# Altium integrated library 74HC4052D.IntLib: 1 symbol
Pins are listed as number, name and electrical type; pins without a type are passive.

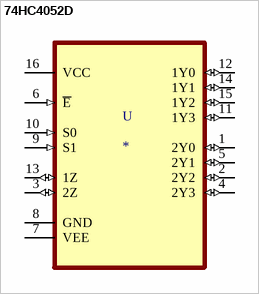
[diagram p0: symbol 74HC4052D]

## 74HC4052D
designator U
2 Circuit IC Switch 4:1 130Ohm 16-SOIC; MP: 74HC4052D; MF: Toshiba; SnapEDA_Link: https://www.snapeda.com/parts/74HC4052D/Toshiba%20Semiconductor%20and%20Storage/view-part/1782201/?ref=snap; Package: SOIC-14 Nexperia; Value: *; Digi-Key_Part_Number: 74HC4052DCT-ND; Digi-Key_Purchase_URL: https://www.digikey.in/product-detail/en/toshiba-semiconductor-and-storage/74HC4052D/74HC4052DCT-ND/6109126?utm_source=snapeda&utm_medium=aggregator&utm_campaign=symbol
footprint SOIC127P600X175-16N
pins: 1 2Y0 (io), 2 2Y2 (io), 3 2Z (io), 4 2Y3 (io), 5 2Y1 (io), 6 ~{E} (in), 7 VEE (power), 8 GND, 9 S1 (in), 10 S0 (in), 11 1Y3 (io), 12 1Y0 (io), 13 1Z (io), 14 1Y1 (io), 15 1Y2 (io), 16 VCC (power)